# EAGLE library part CD4066 (library bedofnails)
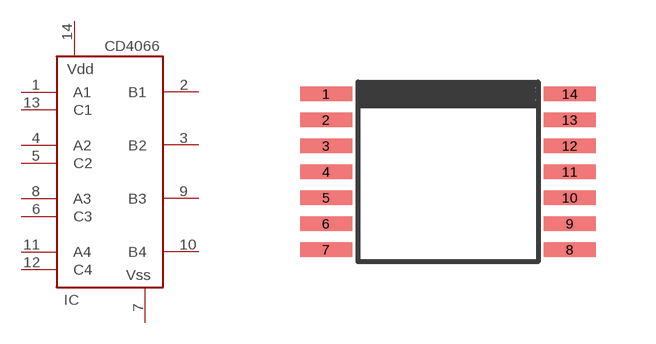
[diagram p1: symbol with the pads of TSSOP-14; footprint TSSOP-14]

Designator prefix IC

## CD4066  [TSSOP-14]
1  A1  pas
2  B1  pas
3  B2  pas
4  A2  pas
5  C2  in
6  C3  in
7  VSS
8  A3  pas
9  B3  pas
10  B4  pas
11  A4  pas
12  C4  in
13  C1  in
14  VDD

## Footprint TSSOP-14 (pad centres in mm)
smd 1.3 x 0.36: 1 0,0; 2 0,-0.65; 3 0,-1.3; 4 0,-1.95; 5 0,-2.6; 6 0,-3.25; 7 0,-3.9; 8 6.095,-3.9; 9 6.095,-3.25; 10 6.095,-2.6; 11 6.095,-1.95; 12 6.095,-1.3; 13 6.095,-0.65; 14 6.095,0